# Altium schematic symbol library SCH_Analog.SchLib: 4 symbols
Pins are listed as number, name and electrical type; pins without a type are passive.

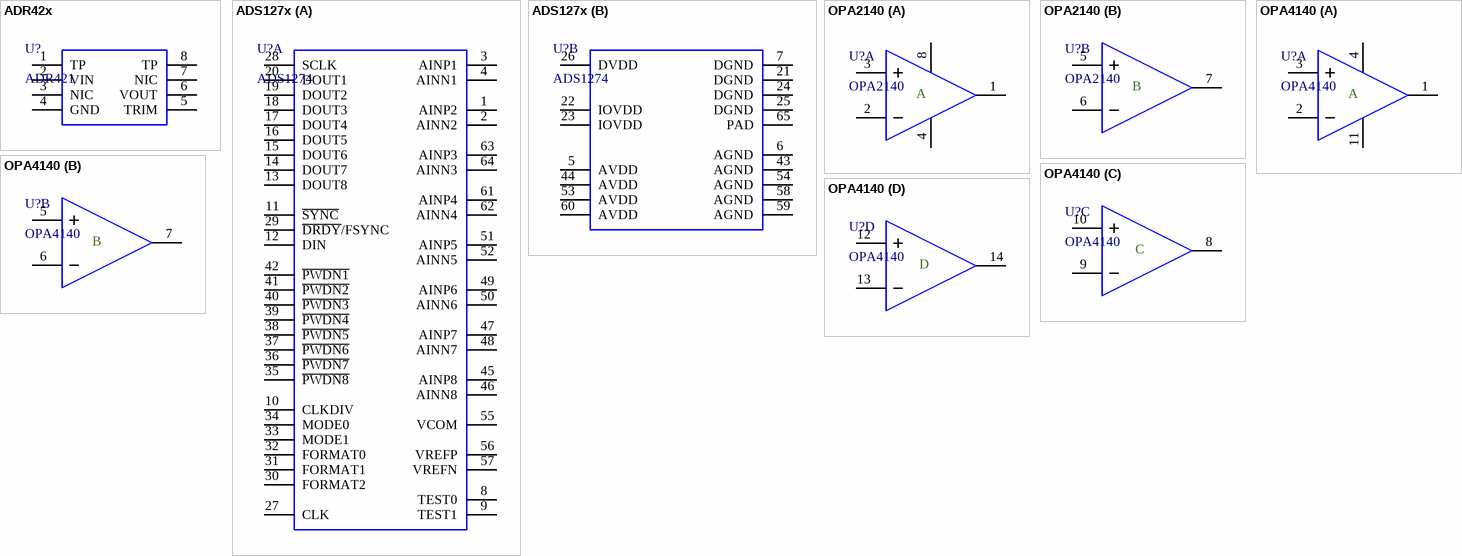
[diagram p0: symbols ADR42x to OPA4140]

## ADR42x
designator U?, comment ADR421
Ultraprecision, Low Noise, 2.048 V/2.500 V/ / 3.00 V/5.00 V XFET® Voltage References
footprint SOP-8-P1.27
pins: 1 TP, 2 VIN, 3 NIC, 4 GND, 5 TRIM, 6 VOUT, 7 NIC, 8 TP

## ADS127x
designator U?, comment ADS1274
24-Bit, 144kSPS, 4-Ch Simultaneous-Sampling Delta-Sigma ADC
footprint LQFP-64-EPAD
part A pins: 1 AINP2, 2 AINN2, 3 AINP1, 4 AINN1, 8 TEST0, 9 TEST1, 10 CLKDIV, 11 ~{SYNC}, 12 DIN, 13 DOUT8, 14 DOUT7, 15 DOUT6, 16 DOUT5, 17 DOUT4, 18 DOUT3, 19 DOUT2, 20 DOUT1, 27 CLK, 28 SCLK, 29 ~{DRDY}/FSYNC, 30 FORMAT2, 31 FORMAT1, 32 FORMAT0, 33 MODE1, 34 MODE0, 35 ~{PWDN8}, 36 ~{PWDN7}, 37 ~{PWDN6}, 38 ~{PWDN5}, 39 ~{PWDN4}, 40 ~{PWDN3}, 41 ~{PWDN2}, 42 ~{PWDN1}, 45 AINP8, 46 AINN8, 47 AINP7, 48 AINN7, 49 AINP6, 50 AINN6, 51 AINP5, 52 AINN5, 55 VCOM, 56 VREFP, 57 VREFN, 61 AINP4, 62 AINN4, 63 AINP3, 64 AINN3
part B pins: 5 AVDD, 6 AGND, 7 DGND, 21 DGND, 22 IOVDD, 23 IOVDD, 24 DGND, 25 DGND, 26 DVDD, 43 AGND, 44 AVDD, 53 AVDD, 54 AGND, 58 AGND, 59 AGND, 60 AVDD, 65 PAD

## OPA2140
designator U?
Quad, 11MHz, Single Supply, Low Noise, Precision, Rail-to-Rail Output, JFET Amplifier
footprint SOP-8-P1.27
part A pins: 1 AOUT, 2 AINN, 3 AINP, 4 VINP, 8 VINN
part B pins: 5 BINP, 6 BINN, 7 BOUT
part A text: A
part B text: B

## OPA4140
designator U?
Quad, 11MHz, Single Supply, Low Noise, Precision, Rail-to-Rail Output, JFET Amplifier
footprint TSSOP-14-P0.65
part A pins: 1 AOUT, 2 AINN, 3 AINP, 4 VINP, 11 VINN
part B pins: 5 BINP, 6 BINN, 7 BOUT
part C pins: 8 COUT, 9 CINN, 10 CINP
part D pins: 12 DINP, 13 DINN, 14 DOUT
part A text: A
part B text: B
part C text: C
part D text: D